# EAGLE library part WE-PSPA_1006 (library Wurth_Automotive_WE-PSPA)
WE-PSPA Push Pull & Gate Drive Transformer Characteristics Surface mount AEC-Q200 Variety of turn ratios Output voltages from 5 V up to 23 V Operating temperature:-40 °C up to +125 ºC Automotive approved Applications As a Gate Drive Transformator Transformator for Push Pull DC/DC Converter For isolated interfaces RS 485, CAN <https://www.we-online.com/components/media/o718702v209%20family-we-pspa-78931812xxx.jpg> Details see: www.we-online.com/components/products/WE-PSPA_PUSH_PULL_TRANSFORMER <www.we-online.com/catalog/WE-PSPA_PUSH_PULL_TRANSFORMER/?utm_source=eagle_model&utm_medium=description_link&utm_campaign=eisos_eagle> Created by Ella 2022-12-05 2022(C) Wurth Elektronik
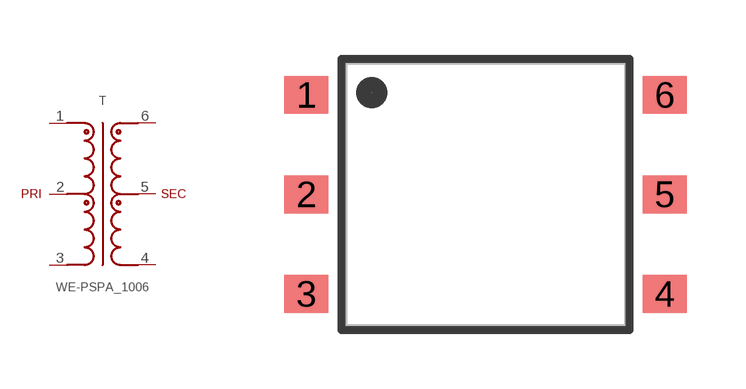
[diagram p0: symbol with the pads of WE-PSPA_1006; footprint WE-PSPA_1006]

Designator prefix T

## WE-PSPA_1006_78931610505 (DATASHEET-URL: https://www.we-online.com/redexpert/spec/78931610505?ae; IOUT1: 350mA; L: 475uH; LS: 500nH; MOUNT: SMT; N: 1:1.15; PART-NUMBER: 78931610505; RDC1: 140ohm; RDC2: 140ohm; RDC3: 150ohm; RDC4: 150ohm; VALUE: 1:1.15; VIN: 5V; VOLTAGE-TIME: 11Vus; VOUT1: 5V; VT: 2500V(AC)), WE-PSPA_1006_78931610512 (DATASHEET-URL: https://www.we-online.com/redexpert/spec/78931610512?ae; IOUT1: 150mA; L: 475uH; LS: 500nH; MOUNT: SMT; N: 1:2.54; PART-NUMBER: 78931610512; RDC1: 165ohm; RDC2: 165ohm; RDC3: 335ohm; RDC4: 335ohm; VALUE: 1:2.54; VIN: 5V; VOLTAGE-TIME: 11Vus; VOUT1: 12V; VT: 2500V(AC)), WE-PSPA_1006_78931610515 (DATASHEET-URL: https://www.we-online.com/redexpert/spec/78931610515?ae; IOUT1: 115mA; L: 475uH; LS: 500nH; MOUNT: SMT; N: 1:3.15; PART-NUMBER: 78931610515; RDC1: 155ohm; RDC2: 155ohm; RDC3: 635ohm; RDC4: 635ohm; VALUE: 1:3.15; VIN: 5V; VOLTAGE-TIME: 11Vus; VOUT1: 15V; VT: 2500V(AC)), WE-PSPA_1006_78931610518 (DATASHEET-URL: https://www.we-online.com/redexpert/spec/78931610518?ae; IOUT1: 100mA; L: 475uH; LS: 500nH; MOUNT: SMT; N: 1:3.77; PART-NUMBER: 78931610518; RDC1: 160ohm; RDC2: 160ohm; RDC3: 775ohm; RDC4: 775ohm; VALUE: 1:3.77; VIN: 5V; VOLTAGE-TIME: 11Vus; VOUT1: 18V; VT: 2500V(AC))  [WE-PSPA_1006]
1  1  pas
2  2  pas
3  3  pas
4  4  pas
5  5  pas
6  6  pas

## Footprint WE-PSPA_1006 (pad centres in mm)
WE-PSPA Push Pull & Gate Drive Transformer Size: 1006, SMT, 6pins LxWxH=10.45x6.73x4.19mm
smd 1.12 x 0.96: 1 -4.57,2.54; 2 -4.57,0; 3 -4.57,-2.54; 4 4.57,-2.54; 5 4.57,0; 6 4.57,2.54